# Altium footprint library Jump.PcbLib: 83 footprints (part 5 of 6)
Each footprint in its own frame and in the unit in brackets; x right, y up, seen from the top. Pads: shape width x height; smd on the part's side, far side on the other; paste and mask are expansions set on the pad; w line width, h text height; cw(c..) or ccw(c..) is an arc to the next point about the centre after c.
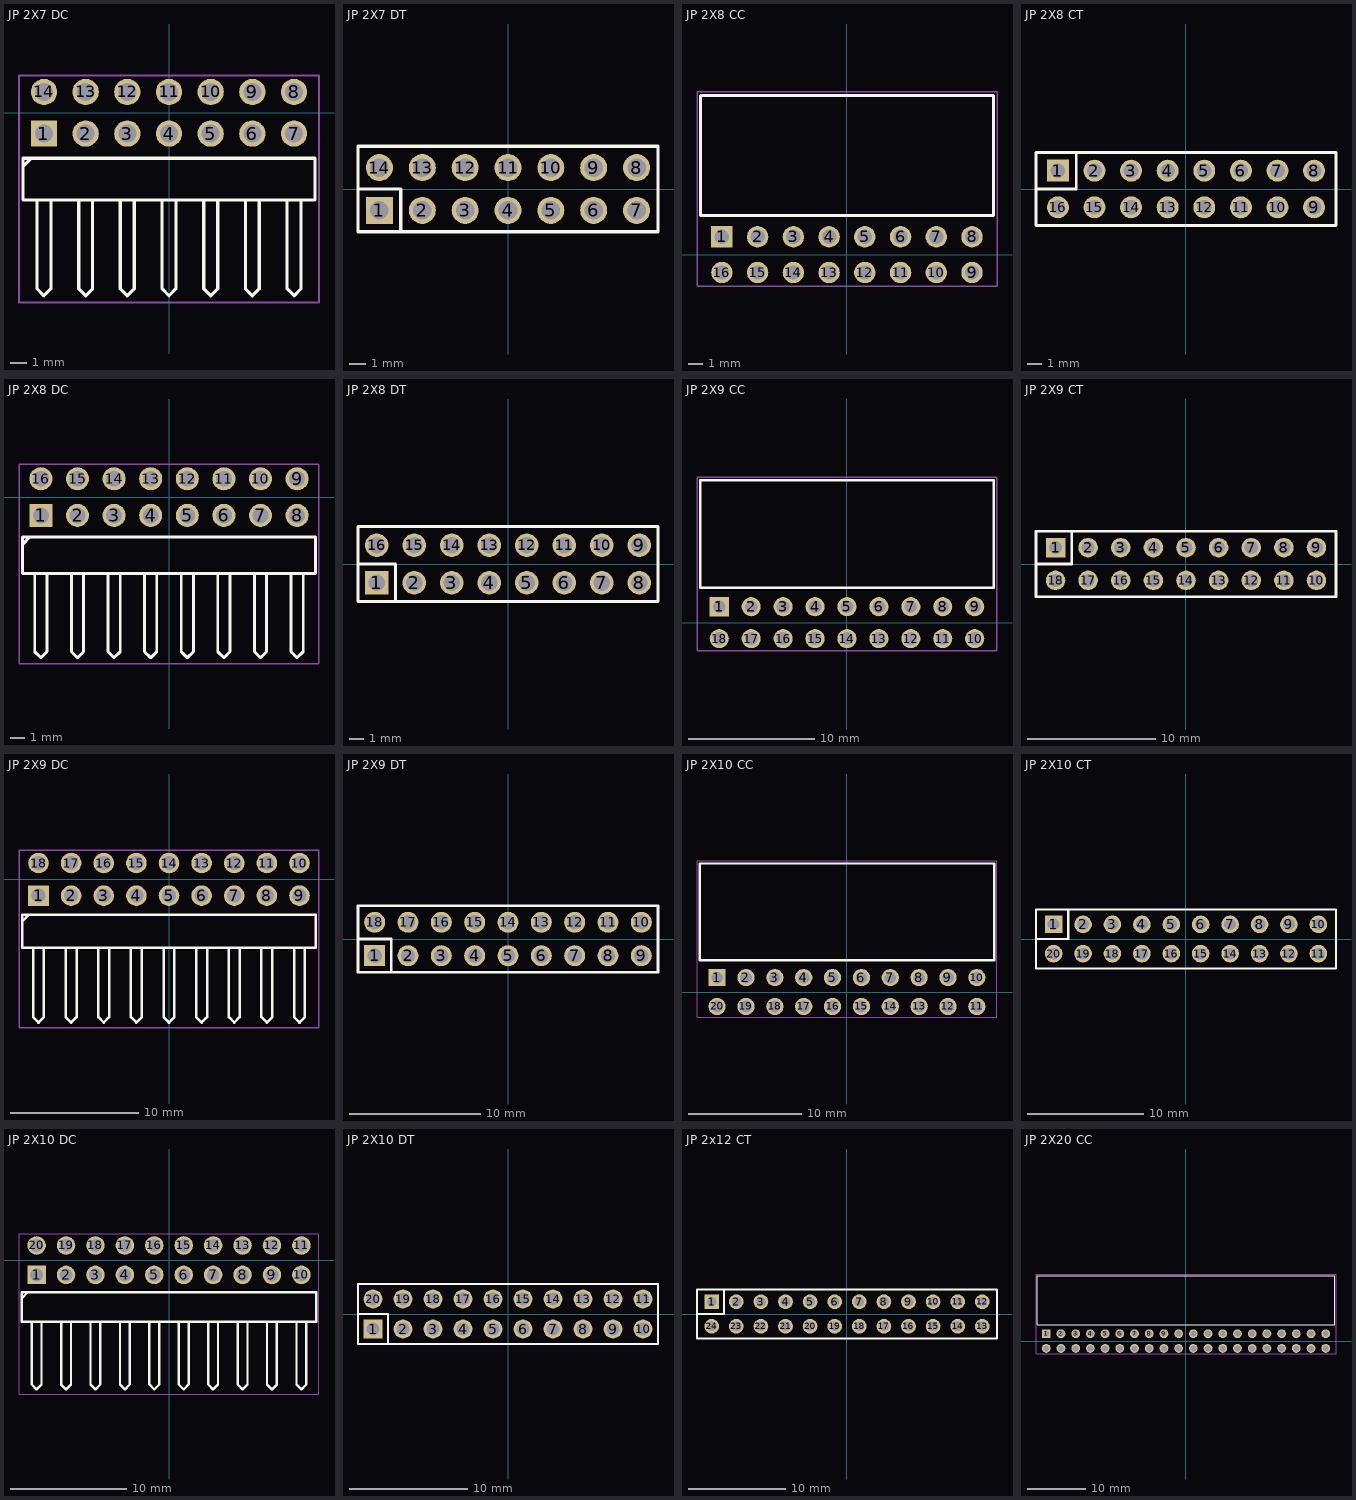
[diagram p4: the footprints below, top view; thin cyan lines are the x and y axes]

## JP 2X7 DC [mm] "14 pins, dual row, right angled, gold plating"
height 5.08
pads (14):
  rect 1.6x1.6 hole 1.1: 1(-7.62,-1.27)
  round 1.6 hole 1.1: 2(-5.08,-1.27) 3(-2.54,-1.27) 4(0,-1.27) 5(2.54,-1.27) 6(5.08,-1.27) 7(7.62,-1.27) 8(7.62,1.27) 9(5.08,1.27) 10(2.54,1.27) 11(0,1.27) 12(-2.54,1.27) 13(-5.08,1.27) 14(-7.62,1.27)
Top Overlay:
  lines w0.2: -8.848,-3.236 -8.424,-2.812 ; -8.043,-5.335 -8.043,-10.729 -7.62,-11.152 -7.197,-10.729 -7.197,-5.31 ; -5.503,-5.335 -5.503,-10.729 -5.08,-11.152 -4.657,-10.729 -4.657,-5.335 ; -2.963,-5.335 -2.963,-10.729 -2.54,-11.152 -2.117,-10.729 -2.117,-5.31 ; -0.423,-5.335 -0.423,-10.729 0,-11.152 0.423,-10.729 0.423,-5.335 ; 2.117,-5.335 2.117,-10.729 2.54,-11.152 2.963,-10.729 2.963,-5.31 ; 4.657,-5.335 4.657,-10.729 5.08,-11.152 5.503,-10.729 5.503,-5.335 ; 7.197,-5.335 7.197,-10.729 7.62,-11.152 8.043,-10.729 8.043,-5.31 ; -8.89,-5.31 -8.89,-2.77 8.89,-2.77 8.89,-5.31 -8.89,-5.31
Mechanical 15:
  lines w0.1: -9.14,-11.56 9.14,-11.56 9.14,2.27 -9.14,2.27 -9.14,-11.56
3D body "61301421021.stp": height 5.09, standoff -2.99, extent -8.89,-11.334 8.89,1.566

## JP 2X7 DT [mm] "14 pins, dual pin, straight, gold plating"
height 8.54
pads (14):
  rect 1.6x1.6 hole 1.1: 1(-7.62,-1.27)
  round 1.6 hole 1.1: 2(-5.08,-1.27) 3(-2.54,-1.27) 4(0,-1.27) 5(2.54,-1.27) 6(5.08,-1.27) 7(7.62,-1.27) 8(7.62,1.27) 9(5.08,1.27) 10(2.54,1.27) 11(0,1.27) 12(-2.54,1.27) 13(-5.08,1.27) 14(-7.62,1.27)
Top Overlay:
  lines w0.2: -8.89,0 -6.35,0 -6.35,-2.54 ; -8.89,-2.54 8.89,-2.54 8.89,2.54 -8.89,2.54 -8.89,-2.54
3D body "61301421121.stp": height 8.55, standoff -2.99, extent -8.89,-2.54 8.89,2.54

## JP 2X8 CC [mm] "16p 2 rows Right angle"
height 5.08
pads (16):
  rect 1.52x1.52 hole 1.02: 1(-8.89,1.27)
  round 1.52 hole 1.02: 2(-6.35,1.27) 3(-3.81,1.27) 4(-1.27,1.27) 5(1.27,1.27) 6(3.81,1.27) 7(6.35,1.27) 8(8.89,1.27) 9(8.89,-1.27) 10(6.35,-1.27) 11(3.81,-1.27) 12(1.27,-1.27) 13(-1.27,-1.27) 14(-3.81,-1.27) 15(-6.35,-1.27) 16(-8.89,-1.27)
Top Overlay:
  lines w0.2: -10.414,2.794 -10.414,11.316 10.414,11.316 10.414,2.794 -10.414,2.794
Mechanical 15:
  lines w0.1: -10.66,-2.23 -10.66,11.566 10.664,11.566 10.664,-2.23 -10.66,-2.23
3D body "613016243121.stp": height 5.09, standoff -4.46, extent -10.41,-1.478 10.41,11.362

## JP 2X8 CT [mm] "16 pins, dual row, straight, gold plating"
height 8.5
pads (16):
  rect 1.52x1.52 hole 1.02: 1(-8.89,1.27)
  round 1.52 hole 1.02: 2(-6.35,1.27) 3(-3.81,1.27) 4(-1.27,1.27) 5(1.27,1.27) 6(3.81,1.27) 7(6.35,1.27) 8(8.89,1.27) 9(8.89,-1.27) 10(6.35,-1.27) 11(3.81,-1.27) 12(1.27,-1.27) 13(-1.27,-1.27) 14(-3.81,-1.27) 15(-6.35,-1.27) 16(-8.89,-1.27)
Top Overlay:
  lines w0.2: -10.41,0 -7.62,0 -7.62,2.54 ; -10.41,-2.54 10.41,-2.54 10.41,2.54 -10.41,2.54 -10.41,-2.54
3D body "61301621821.stp": height 8.51, standoff -3.09, extent -10.41,-2.54 10.41,2.54

## JP 2X8 DC [mm] "16 pins, dual row, right angled, gold plating"
height 5.08
pads (16):
  rect 1.6x1.6 hole 1.1: 1(-8.89,-1.27)
  round 1.6 hole 1.1: 2(-6.35,-1.27) 3(-3.81,-1.27) 4(-1.27,-1.27) 5(1.27,-1.27) 6(3.81,-1.27) 7(6.35,-1.27) 8(8.89,-1.27) 9(8.89,1.27) 10(6.35,1.27) 11(3.81,1.27) 12(1.27,1.27) 13(-1.27,1.27) 14(-3.81,1.27) 15(-6.35,1.27) 16(-8.89,1.27)
Top Overlay:
  lines w0.2: -10.118,-3.236 -9.694,-2.812 ; -9.313,-5.335 -9.313,-10.729 -8.89,-11.152 -8.467,-10.729 -8.467,-5.31 ; -6.773,-5.335 -6.773,-10.729 -6.35,-11.152 -5.927,-10.729 -5.927,-5.335 ; -4.233,-5.335 -4.233,-10.729 -3.81,-11.152 -3.387,-10.729 -3.387,-5.31 ; -1.693,-5.335 -1.693,-10.729 -1.27,-11.152 -0.847,-10.729 -0.847,-5.335 ; 0.847,-5.335 0.847,-10.729 1.27,-11.152 1.693,-10.729 1.693,-5.31 ; 3.387,-5.335 3.387,-10.729 3.81,-11.152 4.233,-10.729 4.233,-5.335 ; 5.927,-5.335 5.927,-10.729 6.35,-11.152 6.773,-10.729 6.773,-5.31 ; 8.467,-5.335 8.467,-10.729 8.89,-11.152 9.313,-10.729 9.313,-5.335 ; -10.16,-5.31 -10.16,-2.77 10.16,-2.77 10.16,-5.31 -10.16,-5.31
Mechanical 15:
  lines w0.1: -10.41,-11.56 -10.41,2.27 10.41,2.27 10.41,-11.56 -10.41,-11.56
3D body "61301621021.stp": height 5.09, standoff -2.99, extent -10.16,-11.334 10.16,1.566

## JP 2X8 DT [mm] "16 pins, dual pin, straight, gold plating"
height 8.54
pads (16):
  rect 1.6x1.6 hole 1.1: 1(-8.89,-1.27)
  round 1.6 hole 1.1: 2(-6.35,-1.27) 3(-3.81,-1.27) 4(-1.27,-1.27) 5(1.27,-1.27) 6(3.81,-1.27) 7(6.35,-1.27) 8(8.89,-1.27) 9(8.89,1.27) 10(6.35,1.27) 11(3.81,1.27) 12(1.27,1.27) 13(-1.27,1.27) 14(-3.81,1.27) 15(-6.35,1.27) 16(-8.89,1.27)
Top Overlay:
  lines w0.2: -10.16,0 -7.62,0 -7.62,-2.54 ; -10.16,-2.54 -10.16,2.54 10.16,2.54 10.16,-2.54 -10.16,-2.54
3D body "61301621121.stp": height 8.55, standoff -2.99, extent -10.16,-2.54 10.16,2.54

## JP 2X9 CC [mm] "18p 2 rows Right angle"
height 5.08
pads (18):
  rect 1.52x1.52 hole 1.02: 1(-10.16,1.27)
  round 1.52 hole 1.02: 2(-7.62,1.27) 3(-5.08,1.27) 4(-2.54,1.27) 5(0,1.27) 6(2.54,1.27) 7(5.08,1.27) 8(7.62,1.27) 9(10.16,1.27) 10(10.16,-1.27) 11(7.62,-1.27) 12(5.08,-1.27) 13(2.54,-1.27) 14(0,-1.27) 15(-2.54,-1.27) 16(-5.08,-1.27) 17(-7.62,-1.27) 18(-10.16,-1.27)
Top Overlay:
  lines w0.2: -11.68,2.794 11.684,2.794 11.684,11.316 -11.68,11.316 -11.68,2.794
Mechanical 15:
  lines w0.1: -11.93,-2.23 11.934,-2.23 11.934,11.566 -11.93,11.566 -11.93,-2.23
3D body "613018243121.stp": height 5.09, standoff -4.46, extent -11.68,-1.478 11.68,11.362

## JP 2X9 CT [mm] "18 pins, dual row, straight, gold plating"
height 8.5
pads (18):
  rect 1.52x1.52 hole 1.02: 1(-10.16,1.27)
  round 1.52 hole 1.02: 2(-7.62,1.27) 3(-5.08,1.27) 4(-2.54,1.27) 5(0,1.27) 6(2.54,1.27) 7(5.08,1.27) 8(7.62,1.27) 9(10.16,1.27) 10(10.16,-1.27) 11(7.62,-1.27) 12(5.08,-1.27) 13(2.54,-1.27) 14(0,-1.27) 15(-2.54,-1.27) 16(-5.08,-1.27) 17(-7.62,-1.27) 18(-10.16,-1.27)
Top Overlay:
  lines w0.2: -11.68,0 -8.89,0 -8.89,2.54 ; -11.68,-2.54 -11.68,2.54 11.68,2.54 11.68,-2.54 -11.68,-2.54
3D body "61301821821.stp": height 8.51, standoff -3.09, extent -11.68,-2.54 11.68,2.54

## JP 2X9 DC [mm] "18 pins, dual row, right angled, gold plating"
height 5.08
pads (18):
  rect 1.6x1.6 hole 1.1: 1(-10.16,-1.27)
  round 1.6 hole 1.1: 2(-7.62,-1.27) 3(-5.08,-1.27) 4(-2.54,-1.27) 5(0,-1.27) 6(2.54,-1.27) 7(5.08,-1.27) 8(7.62,-1.27) 9(10.16,-1.27) 10(10.16,1.27) 11(7.62,1.27) 12(5.08,1.27) 13(2.54,1.27) 14(0,1.27) 15(-2.54,1.27) 16(-5.08,1.27) 17(-7.62,1.27) 18(-10.16,1.27)
Top Overlay:
  lines w0.2: -11.388,-3.236 -10.964,-2.812 ; -10.583,-5.335 -10.583,-10.729 -10.16,-11.152 -9.737,-10.729 -9.737,-5.31 ; -8.043,-5.335 -8.043,-10.729 -7.62,-11.152 -7.197,-10.729 -7.197,-5.335 ; -5.503,-5.335 -5.503,-10.729 -5.08,-11.152 -4.657,-10.729 -4.657,-5.31 ; -2.963,-5.335 -2.963,-10.729 -2.54,-11.152 -2.117,-10.729 -2.117,-5.335 ; -0.423,-5.335 -0.423,-10.729 0,-11.152 0.423,-10.729 0.423,-5.31 ; 2.117,-5.335 2.117,-10.729 2.54,-11.152 2.963,-10.729 2.963,-5.335 ; 4.657,-5.335 4.657,-10.729 5.08,-11.152 5.503,-10.729 5.503,-5.31 ; 7.197,-5.335 7.197,-10.729 7.62,-11.152 8.043,-10.729 8.043,-5.335 ; 9.737,-5.335 9.737,-10.729 10.16,-11.152 10.583,-10.729 10.583,-5.31 ; -11.43,-5.31 11.43,-5.31 11.43,-2.77 -11.43,-2.77 -11.43,-5.31
Mechanical 15:
  lines w0.1: -11.68,-11.56 11.68,-11.56 11.68,2.27 -11.68,2.27 -11.68,-11.56
3D body "61301821021.stp": height 5.09, standoff -2.99, extent -11.43,-11.31 11.43,1.59

## JP 2X9 DT [mm] "18 pins, dual pin, straight, gold plating"
height 8.54
pads (18):
  rect 1.6x1.6 hole 1.1: 1(-10.16,-1.27)
  round 1.6 hole 1.1: 2(-7.62,-1.27) 3(-5.08,-1.27) 4(-2.54,-1.27) 5(0,-1.27) 6(2.54,-1.27) 7(5.08,-1.27) 8(7.62,-1.27) 9(10.16,-1.27) 10(10.16,1.27) 11(7.62,1.27) 12(5.08,1.27) 13(2.54,1.27) 14(0,1.27) 15(-2.54,1.27) 16(-5.08,1.27) 17(-7.62,1.27) 18(-10.16,1.27)
Top Overlay:
  lines w0.2: -11.43,0 -8.89,0 -8.89,-2.54 ; -11.43,-2.54 11.43,-2.54 11.43,2.54 -11.43,2.54 -11.43,-2.54
3D body "61301821121.stp": height 8.55, standoff -2.99, extent -11.43,-2.54 11.43,2.54

## JP 2X10 CC [mm] "20p 2 rows Right angle"
height 5.08
pads (20):
  rect 1.52x1.52 hole 1.02: 1(-11.43,1.27)
  round 1.52 hole 1.02: 2(-8.89,1.27) 3(-6.35,1.27) 4(-3.81,1.27) 5(-1.27,1.27) 6(1.27,1.27) 7(3.81,1.27) 8(6.35,1.27) 9(8.89,1.27) 10(11.43,1.27) 11(11.43,-1.27) 12(8.89,-1.27) 13(6.35,-1.27) 14(3.81,-1.27) 15(1.27,-1.27) 16(-1.27,-1.27) 17(-3.81,-1.27) 18(-6.35,-1.27) 19(-8.89,-1.27) 20(-11.43,-1.27)
Top Overlay:
  lines w0.2: -12.954,2.794 -12.954,11.316 12.954,11.316 12.954,2.794 -12.954,2.794
Mechanical 15:
  lines w0.1: -13.2,-2.23 -13.2,11.566 13.204,11.566 13.204,-2.23 -13.2,-2.23
3D body "613020243121.stp": height 5.09, standoff -4.46, extent -12.95,-1.478 12.95,11.362

## JP 2X10 CT [mm] "20 pins, dual row, straight, gold plating"
height 8.5
pads (20):
  rect 1.52x1.52 hole 1.02: 1(-11.43,1.27)
  round 1.52 hole 1.02: 2(-8.89,1.27) 3(-6.35,1.27) 4(-3.81,1.27) 5(-1.27,1.27) 6(1.27,1.27) 7(3.81,1.27) 8(6.35,1.27) 9(8.89,1.27) 10(11.43,1.27) 11(11.43,-1.27) 12(8.89,-1.27) 13(6.35,-1.27) 14(3.81,-1.27) 15(1.27,-1.27) 16(-1.27,-1.27) 17(-3.81,-1.27) 18(-6.35,-1.27) 19(-8.89,-1.27) 20(-11.43,-1.27)
Top Overlay:
  lines w0.2: -12.95,0 -10.16,0 -10.16,2.54 ; -12.95,-2.54 12.95,-2.54 12.95,2.54 -12.95,2.54 -12.95,-2.54
3D body "61302021821.stp": height 8.51, standoff -3.09, extent -12.95,-2.54 12.95,2.54

## JP 2X10 DC [mm] "20 pins, dual row, right angled, gold plating"
height 5.08
pads (20):
  rect 1.6x1.6 hole 1.1: 1(-11.43,-1.27)
  round 1.6 hole 1.1: 2(-8.89,-1.27) 3(-6.35,-1.27) 4(-3.81,-1.27) 5(-1.27,-1.27) 6(1.27,-1.27) 7(3.81,-1.27) 8(6.35,-1.27) 9(8.89,-1.27) 10(11.43,-1.27) 11(11.43,1.27) 12(8.89,1.27) 13(6.35,1.27) 14(3.81,1.27) 15(1.27,1.27) 16(-1.27,1.27) 17(-3.81,1.27) 18(-6.35,1.27) 19(-8.89,1.27) 20(-11.43,1.27)
Top Overlay:
  lines w0.2: -12.658,-3.236 -12.234,-2.812 ; -11.853,-5.335 -11.853,-10.729 -11.43,-11.152 -11.007,-10.729 -11.007,-5.31 ; -9.313,-5.335 -9.313,-10.729 -8.89,-11.152 -8.467,-10.729 -8.467,-5.335 ; -6.773,-5.335 -6.773,-10.729 -6.35,-11.152 -5.927,-10.729 -5.927,-5.31 ; -4.233,-5.335 -4.233,-10.729 -3.81,-11.152 -3.387,-10.729 -3.387,-5.335 ; -1.693,-5.335 -1.693,-10.729 -1.27,-11.152 -0.847,-10.729 -0.847,-5.31 ; 0.847,-5.335 0.847,-10.729 1.27,-11.152 1.693,-10.729 1.693,-5.335 ; 3.387,-5.335 3.387,-10.729 3.81,-11.152 4.233,-10.729 4.233,-5.31 ; 5.927,-5.335 5.927,-10.729 6.35,-11.152 6.773,-10.729 6.773,-5.335 ; 8.467,-5.335 8.467,-10.729 8.89,-11.152 9.313,-10.729 9.313,-5.31 ; 11.007,-5.335 11.007,-10.729 11.43,-11.152 11.853,-10.729 11.853,-5.335 ; -12.7,-5.31 12.7,-5.31 12.7,-2.77 -12.7,-2.77 -12.7,-5.31
Mechanical 15:
  lines w0.1: -12.95,-11.56 12.95,-11.56 12.95,2.27 -12.95,2.27 -12.95,-11.56
3D body "61302021021.stp": height 5.09, standoff -2.99, extent -12.7,-11.334 12.7,1.566

## JP 2X10 DT [mm] "20 pins, dual pin, straight, gold plating"
height 8.54
pads (20):
  rect 1.6x1.6 hole 1.1: 1(-11.43,-1.27)
  round 1.6 hole 1.1: 2(-8.89,-1.27) 3(-6.35,-1.27) 4(-3.81,-1.27) 5(-1.27,-1.27) 6(1.27,-1.27) 7(3.81,-1.27) 8(6.35,-1.27) 9(8.89,-1.27) 10(11.43,-1.27) 11(11.43,1.27) 12(8.89,1.27) 13(6.35,1.27) 14(3.81,1.27) 15(1.27,1.27) 16(-1.27,1.27) 17(-3.81,1.27) 18(-6.35,1.27) 19(-8.89,1.27) 20(-11.43,1.27)
Top Overlay:
  lines w0.2: -12.7,0 -10.16,0 -10.16,-2.54 ; -12.7,-2.54 -12.7,2.54 12.7,2.54 12.7,-2.54 -12.7,-2.54
3D body "61302021121.stp": height 8.55, standoff -2.99, extent -12.7,-2.54 12.7,2.54

## JP 2x12 CT [mm] "24 pins, dual row, straight, gold plating"
height 8.5
pads (24):
  rect 1.52x1.52 hole 1.02: 1(-13.97,1.27)
  round 1.52 hole 1.02: 2(-11.43,1.27) 3(-8.89,1.27) 4(-6.35,1.27) 5(-3.81,1.27) 6(-1.27,1.27) 7(1.27,1.27) 8(3.81,1.27) 9(6.35,1.27) 10(8.89,1.27) 11(11.43,1.27) 12(13.97,1.27) 13(13.97,-1.27) 14(11.43,-1.27) 15(8.89,-1.27) 16(6.35,-1.27) 17(3.81,-1.27) 18(1.27,-1.27) 19(-1.27,-1.27) 20(-3.81,-1.27) 21(-6.35,-1.27) 22(-8.89,-1.27) 23(-11.43,-1.27) 24(-13.97,-1.27)
Top Overlay:
  lines w0.2: -15.49,0 -12.7,0 -12.7,2.54 ; -15.49,-2.54 15.49,-2.54 15.49,2.54 -15.49,2.54 -15.49,-2.54
3D body "61302421821.stp": height 8.51, standoff -3.09, extent -15.49,-2.54 15.49,2.54

## JP 2X20 CC [mm] "40p 2 rows Right angle"
height 5.08
pads (40):
  rect 1.52x1.52 hole 1.02: 1(-24.13,1.27)
  round 1.52 hole 1.02: 2(-21.59,1.27) 3(-19.05,1.27) 4(-16.51,1.27) 5(-13.97,1.27) 6(-11.43,1.27) 7(-8.89,1.27) 8(-6.35,1.27) 9(-3.81,1.27) 10(-1.27,1.27) 11(1.27,1.27) 12(3.81,1.27) 13(6.35,1.27) 14(8.89,1.27) 15(11.43,1.27) 16(13.97,1.27) 17(16.51,1.27) 18(19.05,1.27) 19(21.59,1.27) 20(24.13,1.27) 21(24.13,-1.27) 22(21.59,-1.27) 23(19.05,-1.27) 24(16.51,-1.27) 25(13.97,-1.27) 26(11.43,-1.27) 27(8.89,-1.27) 28(6.35,-1.27) 29(3.81,-1.27) 30(1.27,-1.27) 31(-1.27,-1.27) 32(-3.81,-1.27) 33(-6.35,-1.27) 34(-8.89,-1.27) 35(-11.43,-1.27) 36(-13.97,-1.27) 37(-16.51,-1.27) 38(-19.05,-1.27) 39(-21.59,-1.27) 40(-24.13,-1.27)
Top Overlay:
  lines w0.2: -25.654,2.794 -25.654,11.316 25.654,11.316 25.654,2.794 -25.654,2.794
Mechanical 15:
  lines w0.1: -25.9,-2.23 -25.9,11.566 25.904,11.566 25.904,-2.23 -25.9,-2.23
3D body "613040243121.stp": height 5.09, standoff -4.46, extent -25.65,-1.478 25.65,11.362